# Altium schematic symbol library urbanturbine.SchLib: 9 symbols
Pins are listed as number, name and electrical type; pins without a type are passive.

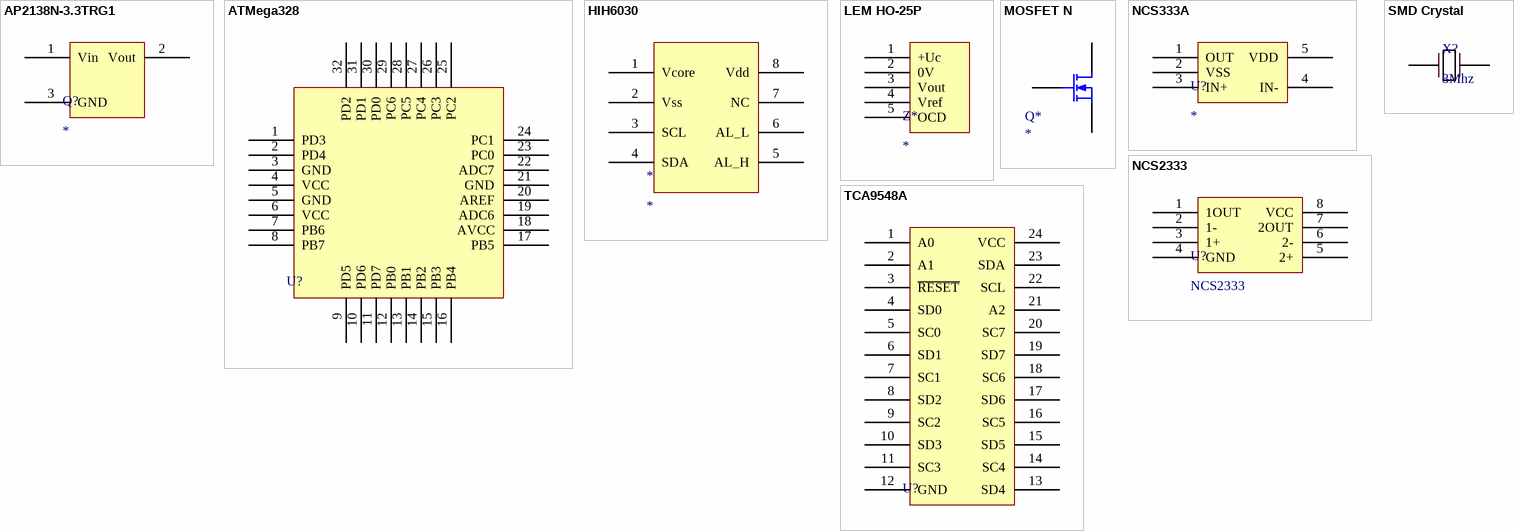
[diagram p0: symbols AP2138N-3.3TRG1 to TCA9548A]

## AP2138N-3.3TRG1
designator Q?
IC REG LINEAR 3.3V 250MA SOT23-3
footprint SOT23_M (Footprint not found)
pins: 1 Vin, 2 Vout, 3 GND

## ATMega328
designator U?  (value not drawn)
8-bit microcontroller
footprint ATMega328P (TQFP, 32-Leads, Body 7.00x7.00mm, Pitch 0.80mm, IPC Medium Density)
pins: 1 PD3, 2 PD4, 3 GND, 4 VCC, 5 GND, 6 VCC, 7 PB6, 8 PB7, 9 PD5, 10 PD6, 11 PD7, 12 PB0, 13 PB1, 14 PB2, 15 PB3, 16 PB4, 17 PB5, 18 AVCC, 19 ADC6, 20 AREF, 21 GND, 22 ADC7, 23 PC0, 24 PC1, 25 PC2, 26 PC3, 27 PC4, 28 PC5, 29 PC6, 30 PD0, 31 PD1, 32 PD2

## HIH6030
designator *
Temp/Humidity Sensor
footprint HIH6300 (Temp/Humidity sensor)
pins: 1 Vcore, 2 Vss, 3 SCL, 4 SDA, 5 AL_H, 6 AL_L, 7 NC, 8 Vdd

## LEM HO-25P
designator Z*
Hall Effect Current Sensor
footprint HO-25
pins: 1 +Uc, 2 0V, 3 Vout, 4 Vref, 5 OCD

## MOSFET N
designator Q*
N-channel MOSFET
footprint SOT23127P600-8N
pins: 1 G, 2 S, 3 D

## NCS333A
designator U?
IC opamp
footprint NCS333 (Zero drift op-amp)
pins: 1 OUT, 2 VSS, 3 IN+, 4 IN-, 5 VDD

## NCS2333
designator U?
IC dual op-amp
pins: 1 1OUT, 2 1-, 3 1+, 4 GND, 5 2+, 6 2-, 7 2OUT, 8 VCC

## SMD Crystal
designator X?, comment 8Mhz
Crystals 8MHz 30pF -10C 60C
footprint SMD Crystal (Crystals 8MHz 30pF -10C 60C)
pins: 1, 2

## TCA9548A
designator U?  (value not drawn)
IIC multiplexor
footprint TCA9548A (TSOP, 24-Leads, Body 7.80x4.40mm, Pitch 0.65mm, IPC Medium Density)
pins: 1 A0, 2 A1, 3 ~{RESET}, 4 SD0, 5 SC0, 6 SD1, 7 SC1, 8 SD2, 9 SC2, 10 SD3, 11 SC3, 12 GND, 13 SD4, 14 SC4, 15 SD5, 16 SC5, 17 SD6, 18 SC6, 19 SD7, 20 SC7, 21 A2, 22 SCL, 23 SDA, 24 VCC